# Altium schematic symbol library SN74AHC1G04DBVR.SchLib: 1 symbol
Pins are listed as number, name and electrical type; pins without a type are passive.

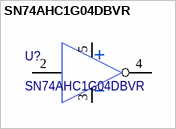
[diagram p0: symbol SN74AHC1G04DBVR]

## SN74AHC1G04DBVR
designator U?
pins: 1 NC hidden, 2, 3 GND, 4 OutY, 5 VCC